# EAGLE library part GPIO_BLOCK_LIMITED (library sparkfun_edison_block)
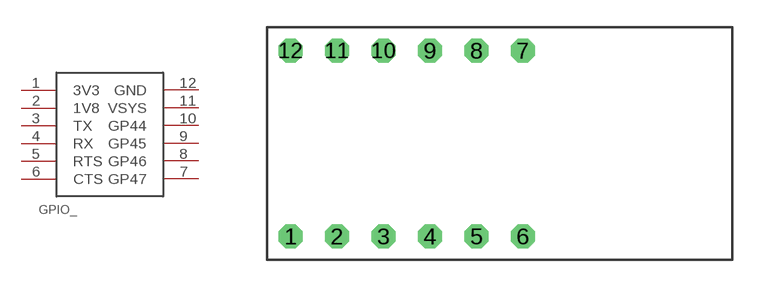
[diagram p0: symbol with the pads of GPIO_BLOCK_LIMITED; footprint GPIO_BLOCK_LIMITED]

Designator prefix GPIO_

## GPIO_BLOCK_LIMITED  [GPIO_BLOCK_LIMITED]
1  3V3
2  1V8
3  TX
4  RX
5  RTS
6  CTS
7  GP47
8  GP46
9  GP45
10  GP44
11  VSYS
12  GND

## Footprint GPIO_BLOCK_LIMITED (pad centres in mm)
drill 0.8 octagon: 1 -5.08,-5.08; 2 -2.54,-5.08; 3 0,-5.08; 4 2.54,-5.08; 5 5.08,-5.08; 6 7.62,-5.08; 7 7.62,5.08; 8 5.08,5.08; 9 2.54,5.08; 10 0,5.08; 11 -2.54,5.08; 12 -5.08,5.08